# Altium schematic symbol library SPST Switch.Schlib: 1 symbol
Pins are listed as number, name and electrical type; pins without a type are passive.

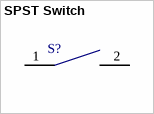
[diagram p0: symbol SPST Switch]

## SPST Switch
designator S?
pins: 1 0, 2 1